# Altium schematic symbol library ERJ-1GNF7872C.SchLib: 1 symbol
Pins are listed as number, name and electrical type; pins without a type are passive.

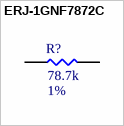
[diagram p0: symbol ERJ-1GNF7872C]

## ERJ-1GNF7872C
designator R?  Resistance: 78.7k  Tolerance: 1%  (hidden comment: ERJ-1GNF7872C)
RES SMD 78.7K OHM 1% 1/20W 0201; MFR: Panasonic Electronic Components; PN: ERJ-1GNF7872C; Footprint: RES0201; Package: 0201; ComponentLink1Description: Datasheet; Power Rating: 1/20W; Supplier 1: Mouser; Supplier Part Number 1: 667-ERJ-1GNF7872C
footprint RES0201 (A generic 0201 footprint)
pins: 1, 2